# EAGLE library part ADM7151ACPZ-04-R7 (library My_Library_RADAR)
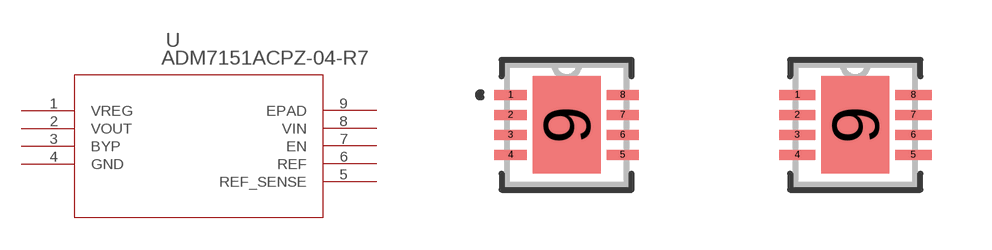
[diagram p26: symbol with the pads of CP_8_11_ADI; footprints CP_8_11_ADI, CP_8_11_ADI-M]

Designator prefix U

## ADM7151ACPZ-04-R7 (COPYRIGHT: Copyright (C) 2025 Ultra Librarian. All rights reserved.; DATASHEET: https://www.analog.com/media/en/technical-documentation/data-sheets/ADM7151.pdf; DESCRIPTION: 800 mA Ultralow Noise, High PSRR, RF Linear Regulator; MANUFACTURER_NAME: Analog Devices Inc; MANUFACTURER_PART_NUMBER: ADM7151ACPZ-04-R7)  [CP_8_11_ADI]
1  VREG  pwr
2  VOUT  out
3  BYP  pas
4  GND  pas
5  REF_SENSE  pas
6  REF  out
7  EN  in
8  VIN  in
9  EPAD  pas

## ADM7151ACPZ-04-R7CP_8_11_ADI-M (COPYRIGHT: Copyright (C) 2025 Ultra Librarian. All rights reserved.; DATASHEET: https://www.analog.com/media/en/technical-documentation/data-sheets/ADM7151.pdf; DESCRIPTION: 800 mA Ultralow Noise, High PSRR, RF Linear Regulator; MANUFACTURER_NAME: Analog Devices Inc; MANUFACTURER_PART_NUMBER: ADM7151ACPZ-04-R7)  [CP_8_11_ADI-M]
Pads as for CP_8_11_ADI

## ADM7151ACPZ-04-R7CP_8_11_ADI-L (COPYRIGHT: Copyright (C) 2025 Ultra Librarian. All rights reserved.; DATASHEET: https://www.analog.com/media/en/technical-documentation/data-sheets/ADM7151.pdf; DESCRIPTION: 800 mA Ultralow Noise, High PSRR, RF Linear Regulator; MANUFACTURER_NAME: Analog Devices Inc; MANUFACTURER_PART_NUMBER: ADM7151ACPZ-04-R7)  [CP_8_11_ADI-L]
Pads as for CP_8_11_ADI

## Footprint CP_8_11_ADI (pad centres in mm)
smd 0.805 x 0.249: 1 -1.402,0.75; 2 -1.402,0.25; 3 -1.402,-0.25; 4 -1.402,-0.75; 5 1.402,-0.75; 6 1.402,-0.25; 7 1.402,0.25; 8 1.402,0.75
smd 1.7 x 2.44: 9 0,0

## Footprint CP_8_11_ADI-M (pad centres in mm)
smd 0.906 x 0.249: 1 -1.453,0.75; 2 -1.453,0.25; 3 -1.453,-0.25; 4 -1.453,-0.75; 5 1.453,-0.75; 6 1.453,-0.25; 7 1.453,0.25; 8 1.453,0.75
smd 1.7 x 2.44: 9 0,0

## Footprint CP_8_11_ADI-L (pad centres in mm)
smd 0.703 x 0.249: 1 -1.352,0.75; 2 -1.352,0.25; 3 -1.352,-0.25; 4 -1.352,-0.75; 5 1.352,-0.75; 6 1.352,-0.25; 7 1.352,0.25; 8 1.352,0.75
smd 1.7 x 2.44: 9 0,0